# Altium footprint library TO-263-5.PcbLib: 1 footprints
Each footprint in its own frame and in the unit in brackets; x right, y up, seen from the top. Pads: shape width x height; smd on the part's side, far side on the other; paste and mask are expansions set on the pad; w line width, h text height; cw(c..) or ccw(c..) is an arc to the next point about the centre after c.
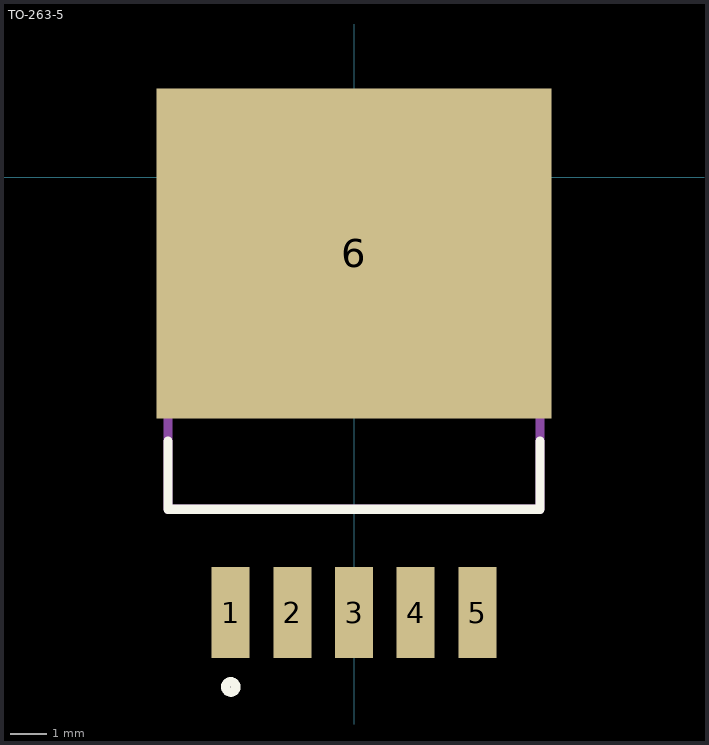
[diagram p0: the footprint, top view; thin cyan lines are the x and y axes]

## TO-263-5 [mm]
pads (6):
  rect 1.05x2.5 smd: 1(-3.4,-12) 2(-1.7,-12) 3(0,-12) 4(1.7,-12) 5(3.4,-12)
  rect 10.9x9.1 smd: 6(0,-2.1)
L26-Silk Screen Top (Multiple PADS layers...):
  circle w0.254: c-3.398,-14.051 r0.144
  lines w0.254: -5.13,-7.279 -5.13,-9.15 5.13,-9.15 5.13,-7.279
L15 (Multiple PADS layers...):
  lines w0.254: -5.13,-9.15 5.13,-9.15 5.13,0 -5.13,0 -5.13,-9.15